# Altium schematic symbol library Interface.SchLib: 7 symbols
Pins are listed as number, name and electrical type; pins without a type are passive.

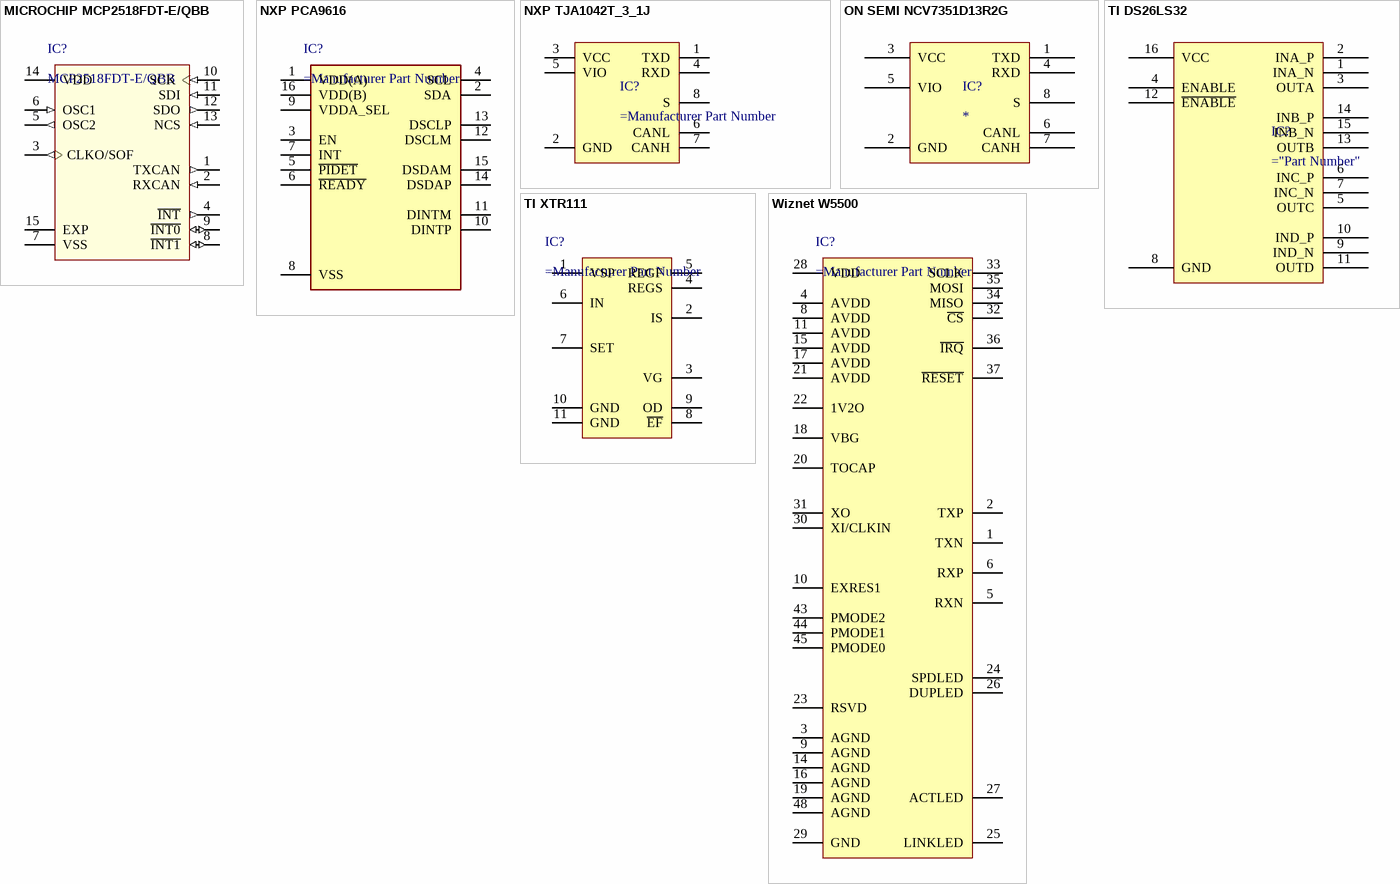
[diagram p0: symbols MICROCHIP MCP2518FDT-E/QBB to Wiznet W5500]

## MICROCHIP MCP2518FDT-E/QBB
designator IC?, comment MCP2518FDT-E/QBB
CAN Controller CAN 2.0 SPI Interface 14-VDFN _4.5x3_
footprint ATMEL VDFN4.5x3x9-15N
pins: 1 TXCAN (out), 2 RXCAN (in), 3 CLKO/SOF (out), 4 ~{INT} (out), 5 OSC2 (out), 6 OSC1 (in), 7 VSS (power), 8 ~{INT1} (io), 9 ~{INT0} (io), 10 SCK (in), 11 SDI (in), 12 SDO (out), 13 NCS (in), 14 VDD (power), 15 EXP

## NXP PCA9616
designator IC?
3-channel multipoint Fast-mode Plus differential I2C-bus / buffer with hot-swap logic
footprint NXP TSSOP-16 (TSSOP, 16-Leads, Body 5.00x4.40mm, Pitch 0.65mm, IPC Medium Density)
pins: 1 VDD(A), 2 SDA, 3 EN, 4 SCL, 5 ~{PIDET}, 6 ~{READY}, 7 INT, 8 VSS, 9 VDDA_SEL, 10 DINTP, 11 DINTM, 12 DSCLM, 13 DSCLP, 14 DSDAP, 15 DSDAM, 16 VDD(B)

## NXP TJA1042T_3_1J
designator IC?
High Speed CAN, CAN FD Transceiver
footprint NXP SOIC-8 (SOIC, 8-Leads, Body 5.28x6mm, Pitch 1.27mm, IPC Medium Density)
pins: 1 TXD, 2 GND, 3 VCC, 4 RXD, 5 VIO, 6 CANL, 7 CANH, 8 S

## ON SEMI NCV7351D13R2G
designator IC?
pins: 1 TXD, 2 GND, 3 VCC, 4 RXD, 5 VIO, 6 CANL, 7 CANH, 8 S

## TI DS26LS32
designator IC?
pins: 1 INA_N, 2 INA_P, 3 OUTA, 4 ENABLE, 5 OUTC, 6 INC_P, 7 INC_N, 8 GND, 9 IND_N, 10 IND_P, 11 OUTD, 12 ~{ENABLE}, 13 OUTB, 14 INB_P, 15 INB_N, 16 VCC

## TI XTR111
designator IC?
The XTR111 is a precision voltage-to-current converter designed for the standard 0mA–20mA or 4mA–20mA analog signals, and can source up to / 36mA.; Manufacturer_Name: Texas Instruments; Manufacturer_Part_Number: XTR111AIDGQT; Datasheet Link: https://www.ti.com/lit/ds/symlink/xtr111.pdf?ts=1655024999460&ref_url=https%253A%252F%252Fwww.ti.com%252Fproduct%252FXTR111%253FkeyMatch%253DXTR111AIDGQT%2526tisearch%253Dsearch-everything%2526usecase%253DOPN; Height: 1.1mm; Mouser Part Number: 595-XTR111AIDGQT; Mouser Price/Stock: https://www.mouser.co.uk/ProductDetail/Texas-Instruments/XTR111AIDGQT?qs=pZC5fsuWujG53U9txK6UpA%3D%3D; Arrow Part Number: XTR111AIDGQT; Arrow Price/Stock: https://www.arrow.com/en/products/xtr111aidgqt/texas-instruments?region=nac
footprint TI MSOP-10 DGQ (TSSOP, 10-Leads, Body 3x3mm, Pitch 0.5mm, Thermal Pad 1.88x1.57mm, IPC Medium Density)
footprint MAXIM TDFN-10 3x3MM T1033-1 (DFN, 10-Leads, Body 3.00x3.00mm, Pitch 0.50mm, Thermal Pad 1.58x2.35mm, IPC Medium Density)
pins: 1 VSP, 2 IS, 3 VG, 4 REGS, 5 REGF, 6 IN, 7 SET, 8 ~{EF}, 9 OD, 10 GND, 11 GND

## Wiznet W5500
designator IC?
The W5500 chip is a Hardwired TCP/IP embedded Ethernet controller that provides easier Internet connection to embedded systems. W5500 enables users to have the / Internet connectivity in their applications just by using the single chip in which TCP/IP stack, 10/100 Ethernet MAC and PHY embedded.
footprint WIZNET QFP-48 9x9mm
pins: 1 TXN, 2 TXP, 3 AGND, 4 AVDD, 5 RXN, 6 RXP, 8 AVDD, 9 AGND, 10 EXRES1, 11 AVDD, 14 AGND, 15 AVDD, 16 AGND, 17 AVDD, 18 VBG, 19 AGND, 20 TOCAP, 21 AVDD, 22 1V2O, 23 RSVD, 24 SPDLED, 25 LINKLED, 26 DUPLED, 27 ACTLED, 28 VDD, 29 GND, 30 XI/CLKIN, 31 XO, 32 ~{CS}, 33 SCLK, 34 MISO, 35 MOSI, 36 ~{IRQ}, 37 ~{RESET}, 43 PMODE2, 44 PMODE1, 45 PMODE0, 48 AGND